# Altium schematic symbol library Magway.SchLib: 48 symbols
Pins are listed as number, name and electrical type; pins without a type are passive.

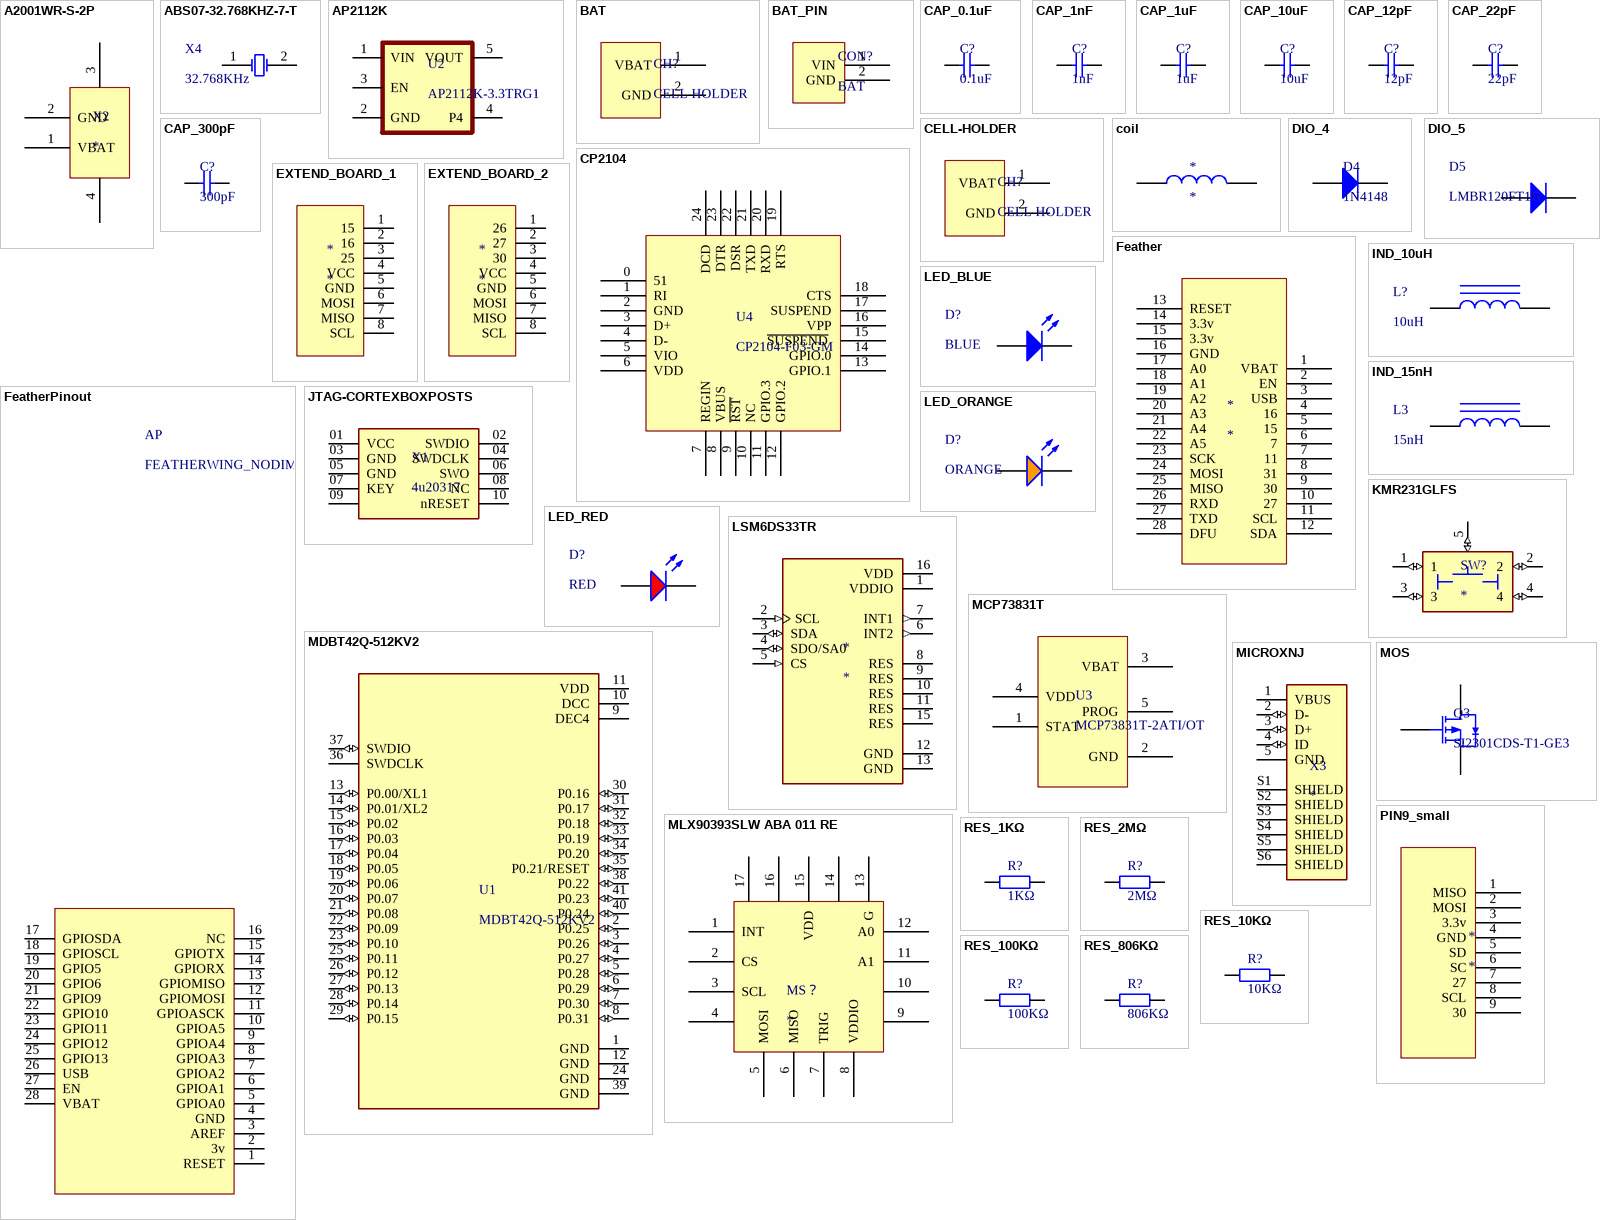
[diagram p0: symbols A2001WR-S-2P to RES_806KΩ]

## A2001WR-S-2P
designator X2
Wire-to-board, wire-to-wire connectors
footprint A2001WR-S-2P
pins: 1 VBAT, 2 GND, 3 NC1, 4 NC2

## ABS07-32.768KHZ-7-T
designator X4, comment 32.768KHz
crystal; ComponentLink1Description: 供应商链接; ComponentLink1URL: http://www.szlcsc.com/product/details_33310.html; Package: SMD-3215_2P; Supplier: LC; SuppliersPartNumber: C32346
footprint SMD-3215_2P FC - 135
pins: 1 OSC1, 2 OSC2

## AP2112K
designator U2, comment AP2112K-3.3TRG1
LDO_ low dropout linear regulator
footprint SOT95P285X140-5N
pins: 1 VIN (power), 2 GND (power), 3 EN (power), 4 P4 (power), 5 VOUT (power)

## BAT
designator CH?, comment CELL HOLDER
button cell battary holder BS-08-B2AA025
footprint BAT_MX 1.25-WI-2P (长：4.25mm，宽：1.8mm，高：3.3mm)
pins: 1 VBAT, 2 GND

## BAT_PIN
designator CON?, comment BAT
footprint BAT_PIN
pins: 1 VIN, 2 GND

## CAP_0.1uF
designator C?, comment 0.1uF
capacitance
footprint 0402_C (无极性贴片电容)
pins: 1, 2

## CAP_1nF
designator C?, comment 1nF
capacitance
footprint 0402_C (无极性贴片电容)
pins: 1, 2

## CAP_1uF
designator C?, comment 1uF
capacitance; ComponentLink1Description: 供应商链接; ComponentLink1URL: http://www.szlcsc.com/product/details_16531.html; Package: 0603; Supplier: LC; SuppliersPartNumber: C15849
footprint 0402_C (无极性贴片电容)
pins: 1, 2

## CAP_10uF
designator C?, comment 10uF
capacitance; ComponentLink1Description: 供应商链接; ComponentLink1URL: http://www.szlcsc.com/product/details_16532.html; Package: 0805; Supplier: LC; SuppliersPartNumber: C15850
footprint 0402_C (无极性贴片电容)
pins: 1, 2

## CAP_12pF
designator C?, comment 12pF
capacitance
footprint 0402_C (无极性贴片电容)
pins: 1, 2

## CAP_22pF
designator C?, comment 22pF
capacitance
footprint 0402_C (无极性贴片电容)
pins: 1, 2

## CAP_300pF
designator C?, comment 300pF
capacitance
footprint 0402_C (无极性贴片电容)
pins: 1, 2

## CELL-HOLDER
designator CH?, comment CELL HOLDER
button cell battary holder BS-08-B2AA025
footprint BS-08-B2AA025
pins: 1 VBAT, 2 GND

## coil
designator *
pins: 1, 2

## CP2104
designator U4, comment CP2104-F03-GM
USB chip; ComponentLink1Description: 供应商链接; ComponentLink1URL: http://www.szlcsc.com/product/details_48747.html; Package: QFN-24_4x4x05P; Supplier: LC; SuppliersPartNumber: C47742
footprint QFN-24_4x4x05P
pins: 0 51, 1 RI, 2 GND, 3 D+, 4 D-, 5 VIO, 6 VDD, 7 REGIN, 8 VBUS, 9 ~{RST}, 10 NC, 11 GPIO.3, 12 GPIO.2, 13 GPIO.1, 14 GPIO.0, 15 ~{SUSPEND} , 16 VPP, 17 SUSPEND, 18 CTS, 19 RTS, 20 RXD, 21 TXD, 22 DSR, 23 DTR, 24 DCD

## DIO_4
designator D4, comment 1N4148
diode; ComponentLink1Description: 供应商链接; ComponentLink1URL: http://www.szlcsc.com/product/details_2485.html; Package: SOD-323; Supplier: LC; SuppliersPartNumber: C2128
footprint SOD-323F
pins: 1 A, 2 K

## DIO_5
designator D5, comment LMBR120FT1G
schottky diode; ComponentLink1Description: 供应商链接; ComponentLink1URL: http://www.szlcsc.com/product/details_9093.html; Package: SOD-123; Supplier: LC; SuppliersPartNumber: C8598
footprint SOD-123
pins: 1 A, 2 K

## EXTEND_BOARD_1
designator *
footprint FPC0.5 2H-WS-8P (长：8.2mm，宽：5.2mm，高：2mm 淘宝ID:黄晶宝石   店铺网址:https://shop463601444.taobao.com)
pins: 1 15, 2 16, 3 25, 4 VCC, 5 GND, 6 MOSI, 7 MISO, 8 SCL

## EXTEND_BOARD_2
designator *
footprint FPC0.5 2H-WS-8P (长：8.2mm，宽：5.2mm，高：2mm 淘宝ID:黄晶宝石   店铺网址:https://shop463601444.taobao.com)
pins: 1 26, 2 27, 3 30, 4 VCC, 5 GND, 6 MOSI, 7 MISO, 8 SCL

## Feather
designator *
footprint Feather
pins: 1 VBAT, 2 EN, 3 USB, 4 16, 5 15, 6 7, 7 11, 8 31, 9 30, 10 27, 11 SCL, 12 SDA, 13 RESET, 14 3.3v, 15 3.3v, 16 GND, 17 A0, 18 A1, 19 A2, 20 A3, 21 A4, 22 A5, 23 SCK, 24 MOSI, 25 MISO, 26 RXD, 27 TXD, 28 DFU

## FeatherPinout
designator AP, comment FEATHERWING_NODIM
footprint Adafruit Pinout
pins: 1 RESET, 2 3v, 3 AREF, 4 GND, 5 GPIOA0, 6 GPIOA1, 7 GPIOA2, 8 GPIOA3, 9 GPIOA4, 10 GPIOA5, 11 GPIOASCK, 12 GPIOMOSI, 13 GPIOMISO, 14 GPIORX, 15 GPIOTX, 16 NC, 17 GPIOSDA, 18 GPIOSCL, 19 GPIO5, 20 GPIO6, 21 GPIO9, 22 GPIO10, 23 GPIO11, 24 GPIO12, 25 GPIO13, 26 USB, 27 EN, 28 VBAT

## IND_10uH
designator L?, comment 10uH
inductance; ComponentLink1Description: 供应商链接; ComponentLink1URL: http://www.szlcsc.com/product/details_1398.html; Package: 0805; Supplier: LC; SuppliersPartNumber: C1046
footprint 0402_L
pins: 1, 2

## IND_15nH
designator L3, comment 15nH
inductance; ComponentLink1Description: 供应商链接; ComponentLink1URL: http://www.szlcsc.com/product/details_1398.html; Package: 0805; Supplier: LC; SuppliersPartNumber: C1046
footprint 0402_L
pins: 1, 2

## JTAG-CORTEXBOXPOSTS
designator X1, comment 4u20317
Serial Wire (SW-DP) Connector
footprint TFM-105-12-S-D-A
pins: 01 VCC, 02 SWDIO, 03 GND, 04 SWDCLK, 05 GND, 06 SWO, 07 KEY, 08 NC, 09 GNDDetect, 10 nRESET

## KMR231GLFS
designator SW?
Tactile Switch SPST-NO Top Actuated Surface Mount
footprint KMR231GLFS
pins: 1 (io), 2 (io), 3 (io), 4 (io), 5 (io)

## LED_BLUE
designator D?, comment BLUE
LED; ComponentLink1Description: 供应商链接; ComponentLink1URL: http://www.szlcsc.com/product/details_73150.html; Package: 0603; Supplier: LC; SuppliersPartNumber: C72041
footprint 0603_LED_S1
pins: A, K

## LED_ORANGE
designator D?, comment ORANGE
LED; ComponentLink1Description: 供应商链接; ComponentLink1URL: http://www.szlcsc.com/product/details_2659.html; Package: 0603; Supplier: LC; SuppliersPartNumber: C2286
footprint 0603_LED_S1
pins: A, K

## LED_RED
designator D?, comment RED
LED; ComponentLink1Description: 供应商链接; ComponentLink1URL: http://www.szlcsc.com/product/details_2659.html; Package: 0603; Supplier: LC; SuppliersPartNumber: C2286
footprint 0603_LED_S1
pins: A, K

## LSM6DS33TR
designator *
IMU
pins: 1 VDDIO (power), 2 SCL (in), 3 SDA (io), 4 SDO/SA0 (io), 5 CS (in), 6 INT2 (out), 7 INT1 (out), 8 RES, 9 RES, 10 RES, 11 RES, 12 GND (power), 13 GND (power), 15 RES, 16 VDD (power)

## MCP73831T
designator U3, comment MCP73831T-2ATI/OT
Battery power management chip
footprint SOT95P280X145-5N
pins: 1 STAT, 2 GND, 3 VBAT, 4 VDD, 5 PROG

## MDBT42Q-512KV2
designator U1
RAYTAC  MDBT42Q-512KV2 Bluetooth Low Energy Module https://www.raytac.com/product/ins.php?index_id=31 https://www.snapeda.com/parts/MDBT42Q-512KV2/Raytac%20Corporation/view-part/?ref=search&t=MDBT42Q-512KV2
footprint SMD_10.0X16.0
pins: 1 GND (power), 2 P0.25 (io), 3 P0.26 (io), 4 P0.27 (io), 5 P0.28 (io), 6 P0.29 (io), 7 P0.30 (io), 8 P0.31 (io), 9 DEC4 (power), 10 DCC (power), 11 VDD (power), 12 GND (power), 13 P0.00/XL1 (io), 14 P0.01/XL2 (io), 15 P0.02 (io), 16 P0.03 (io), 17 P0.04 (io), 18 P0.05 (io), 19 P0.06 (io), 20 P0.07 (io), 21 P0.08 (io), 22 P0.09 (io), 23 P0.10 (io), 24 GND (power), 25 P0.11 (io), 26 P0.12 (io), 27 P0.13 (io), 28 P0.14 (io), 29 P0.15 (io), 30 P0.16 (io), 31 P0.17 (io), 32 P0.18 (io), 33 P0.19 (io), 34 P0.20 (io), 35 P0.21/RESET (io), 36 SWDCLK (power), 37 SWDIO (io), 38 P0.22 (io), 39 GND (power), 40 P0.24 (io), 41 P0.23 (io)

## MICROXNJ
designator X3
Micro USB
footprint SHOUHAN_MICROXNJ
pins: 1 VBUS (power), 2 D- (io), 3 D+ (io), 4 ID (io), 5 GND (power), S1 SHIELD, S2 SHIELD, S3 SHIELD, S4 SHIELD, S5 SHIELD, S6 SHIELD

## MLX90393SLW ABA 011 RE
designator MS？
sensor
footprint VQFN-16_EP_3.0x3.0xo.5P
pins: 1 INT, 2 CS, 3 SCL, 4, 5 MOSI, 6 MISO, 7 TRIG, 8 VDDIO, 9, 10, 11 A1, 12 A0, 13 G, 14, 15 VDD, 16, 17

## MOS
designator Q3, comment SI2301CDS-T1-GE3
field effect tube; ComponentLink1Description: 供应商链接; ComponentLink1URL: http://www.szlcsc.com/product/details_11030.html; Package: SOT-23(SOT-23-3); Supplier: LC; SuppliersPartNumber: C10487
footprint SOT-23(SOT-23-3)
pins: 1 G, 2 S, 3 D

## PIN9_small
designator *  (no BOM)
connector pin
footprint PIN_small
pins: 1 MISO, 2 MOSI, 3 3.3v, 4 GND, 5 SD, 6 SC, 7 27, 8 SCL, 9 30

## RES_1KΩ
designator R?, comment 1KΩ
resistance; ComponentLink1Description: 供应商链接; ComponentLink1URL: http://www.szlcsc.com/product/details_26562.html; Package: 0603; Supplier: LC; SuppliersPartNumber: C25819
footprint 0402_R (1/16W贴片电阻)
pins: 1, 2

## RES_2MΩ
designator R?, comment 2MΩ
resistance; ComponentLink1Description: 供应商链接; ComponentLink1URL: http://www.szlcsc.com/product/details_23703.html; Package: 0603; Supplier: LC; SuppliersPartNumber: C22976
footprint 0402_R (1/16W贴片电阻)
pins: 1, 2

## RES_10KΩ
designator R?, comment 10KΩ
resistance; ComponentLink1Description: 供应商链接; ComponentLink1URL: http://www.szlcsc.com/product/details_26562.html; Package: 0603; Supplier: LC; SuppliersPartNumber: C25819
footprint 0402_R (1/16W贴片电阻)
pins: 1, 2

## RES_100KΩ
designator R?, comment 100KΩ
resistance; ComponentLink1Description: 供应商链接; ComponentLink1URL: http://www.szlcsc.com/product/details_26562.html; Package: 0603; Supplier: LC; SuppliersPartNumber: C25819
footprint 0402_R (1/16W贴片电阻)
pins: 1, 2

## RES_806KΩ
designator R?, comment 806KΩ
resistance; ComponentLink1Description: 供应商链接; ComponentLink1URL: http://www.szlcsc.com/product/details_26562.html; Package: 0603; Supplier: LC; SuppliersPartNumber: C25819
footprint 0402_R (1/16W贴片电阻)
pins: 1, 2

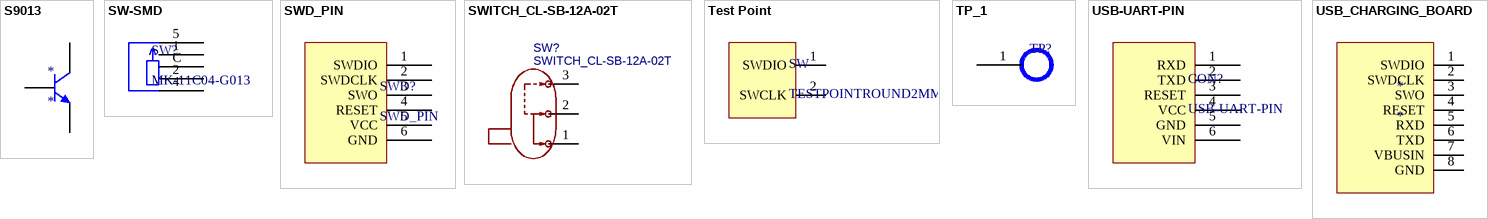
[diagram p1: symbols S9013 to USB_CHARGING_BOARD]

## S9013
designator *
pins: 1 B, 2 E, 3 C

## SW-SMD
designator SW?, comment MK-11C04-G013
footprint SW-SMD_MK-11C04-G013
pins: 1, 2, 4, 5, C

## SWD_PIN
designator SWD?
footprint SWD_PIN
pins: 1 SWDIO, 2 SWDCLK, 3 SWO, 4 RESET, 5 VCC, 6 GND

## SWITCH_CL-SB-12A-02T
designator SW?
BOM_Manufacturer: NIDEC(尼得科); Contributor: LCSC; BOM_Supplier: LCSC; BOM_Supplier Part: C2921644; BOM_Manufacturer Part: CL-SB-12A-02T; spicePre: S; spiceSymbolName: CL-SB-12A-02T
footprint SWITCH_SW-SMD_NIDEC_CL-SB-12A-02T
pins: 1, 2, 3

## Test Point
designator SW, comment TESTPOINTROUND2MM  (no BOM)
Test Point   Various test points for characterisation and PCB testing
footprint SWD
pins: 1 SWDIO, 2 SWCLK

## TP_1
designator TP?, comment TEST POINT  (value not drawn)  (no BOM)
Test Point   Various test points for characterisation and PCB testing
footprint TEST_P
pins: 1 TP

## USB-UART-PIN
designator CON?
footprint USB-UART-PIN
pins: 1 RXD, 2 TXD, 3 RESET, 4 VCC, 5 GND, 6 VIN

## USB_CHARGING_BOARD
designator *
footprint FPC0.5 2H-WS-8P (长：8.2mm，宽：5.2mm，高：2mm 淘宝ID:黄晶宝石   店铺网址:https://shop463601444.taobao.com)
pins: 1 SWDIO, 2 SWDCLK, 3 SWO, 4 RESET, 5 RXD, 6 TXD, 7 VBUSIN, 8 GND